# EAGLE library part XC9572_64VQ (library pixel)
xc9536_pc44 XC9500 In-System Programmable CPLD Family Auto generated by make-symbol-device-package-bsdl.ulp Rev. 34 Source: xc9536_vq44.bsd
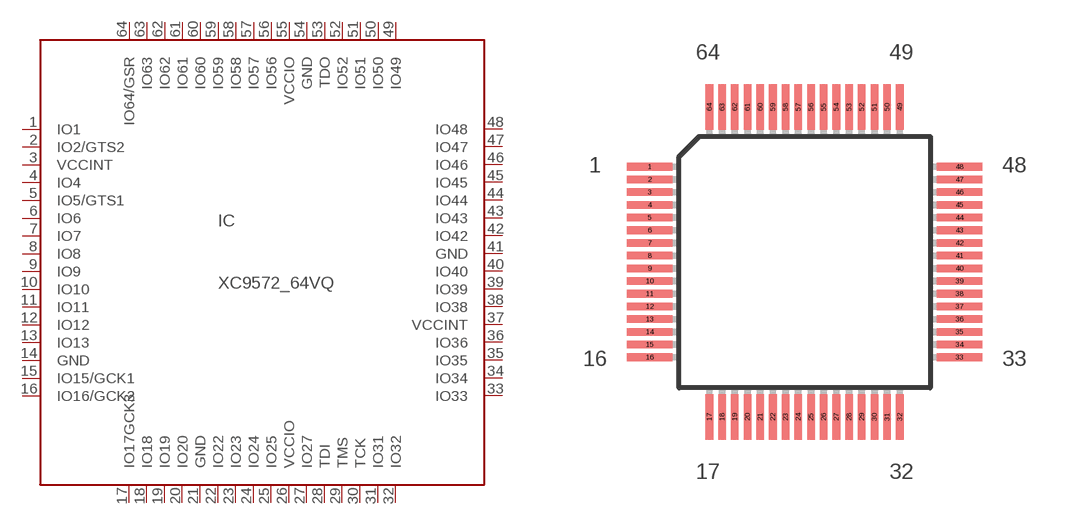
[diagram p12: symbol with the pads of VQFP64-LL; footprint VQFP64-LL]

Designator prefix IC

## XC9572_64VQ (MPN: XC9536-15VQG44C; OC_FARNELL: 1193227; OC_NEWARK: 98K3377)  [VQFP64-LL]
1  IO1
2  IO2/GTS2
3  VCCINT
4  IO4  pwr
5  IO5/GTS1
6  IO6
7  IO7
8  IO8
9  IO9  in
10  IO10  in
11  IO11  in
12  IO12
13  IO13
14  GND
15  IO15/GCK1
16  IO16/GCK2
17  IO17GCK3
18  IO18
19  IO19
20  IO20  pwr
21  GND
22  IO22  pwr
23  IO23
24  IO24
25  IO25
26  VCCIO
27  IO27
28  TDI
29  TMS
30  TCK
31  IO31
32  IO32
33  IO33
34  IO34
35  IO35
36  IO36
37  VCCINT
38  IO38
39  IO39  out
40  IO40  pwr
41  GND  pwr
42  IO42
43  IO43
44  IO44
45  IO45
46  IO46
47  IO47
48  IO48
49  IO49
50  IO50
51  IO51
52  IO52
53  TDO
54  GND
55  VCCIO  in
56  IO56
57  IO57
58  IO58
59  IO59
60  IO60
61  IO61
62  IO62
63  IO63
64  IO64/GSR

## Footprint VQFP64-LL (pad centres in mm)
64-lead VQVP Source. http://www.atmel.com/dyn/resources/prod_documents/doc4136.pdf
smd 1.8 x 0.3: 1 -6.1,3.75; 2 -6.1,3.25; 3 -6.1,2.75; 4 -6.1,2.25; 5 -6.1,1.75; 6 -6.1,1.25; 7 -6.1,0.75; 8 -6.1,0.25; 9 -6.1,-0.25; 10 -6.1,-0.75; 11 -6.1,-1.25; 12 -6.1,-1.75; 13 -6.1,-2.25; 14 -6.1,-2.75; 15 -6.1,-3.25; 16 -6.1,-3.75; 33 6.1,-3.75; 34 6.1,-3.25; 35 6.1,-2.75; 36 6.1,-2.25; 37 6.1,-1.75; 38 6.1,-1.25; 39 6.1,-0.75; 40 6.1,-0.25; 41 6.1,0.25; 42 6.1,0.75; 43 6.1,1.25; 44 6.1,1.75; 45 6.1,2.25; 46 6.1,2.75; 47 6.1,3.25; 48 6.1,3.75
smd 0.3 x 1.8: 17 -3.75,-6.1; 18 -3.25,-6.1; 19 -2.75,-6.1; 20 -2.25,-6.1; 21 -1.75,-6.1; 22 -1.25,-6.1; 23 -0.75,-6.1; 24 -0.25,-6.1; 25 0.25,-6.1; 26 0.75,-6.1; 27 1.25,-6.1; 28 1.75,-6.1; 29 2.25,-6.1; 30 2.75,-6.1; 31 3.25,-6.1; 32 3.75,-6.1; 49 3.75,6.1; 50 3.25,6.1; 51 2.75,6.1; 52 2.25,6.1; 53 1.75,6.1; 54 1.25,6.1; 55 0.75,6.1; 56 0.25,6.1; 57 -0.25,6.1; 58 -0.75,6.1; 59 -1.25,6.1; 60 -1.75,6.1; 61 -2.25,6.1; 62 -2.75,6.1; 63 -3.25,6.1; 64 -3.75,6.1